# EAGLE library part MMA7660 (library accelerometer)
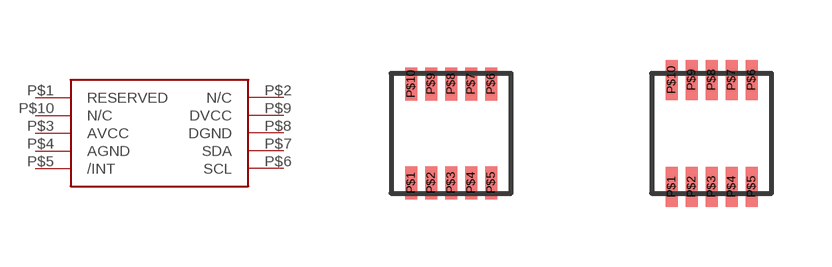
[diagram p0: symbol with the pads of DFN-10; footprints DFN-10, DFN-10-HAND]

Designator prefix -

## MMA7660DFN-10  [DFN-10]
P$1  RESERVED
P$2  N/C  nc
P$3  AVCC
P$4  AGND
P$5  /INT
P$6  SCL
P$7  SDA
P$8  DGND
P$9  DVCC
P$10  N/C  nc

## MMA7660DFN-10-HAND  [DFN-10-HAND]
P$1  RESERVED
P$2  N/C  nc
P$3  AVCC
P$4  AGND
P$5  /INT
P$6  SCL
P$7  SDA
P$8  DGND
P$9  DVCC
P$10  N/C  nc

## Footprint DFN-10 (pad centres in mm)
smd 0.3 x 0.825: P$1 0,0; P$2 0.5,0; P$3 1,0; P$4 1.5,0; P$5 2,0; P$6 2,2.48; P$7 1.5,2.48; P$8 1,2.48; P$9 0.5,2.48; P$10 0,2.48

## Footprint DFN-10-HAND (pad centres in mm)
smd 0.3 x 1: P$1 -1,-1.37; P$2 -0.5,-1.37; P$3 0,-1.37; P$4 0.5,-1.37; P$5 1,-1.37; P$6 1,1.31; P$7 0.5,1.31; P$8 0,1.31; P$9 -0.5,1.31; P$10 -1,1.31